# Altium schematic symbol library 78F5R6J-RC.SchLib: 2 symbols
Pins are listed as number, name and electrical type; pins without a type are passive.

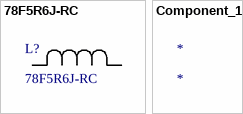
[diagram p0: symbols 78F5R6J-RC to Component_1]

## 78F5R6J-RC
designator L?
No Description Available; Mfr_Name: Bourns Electronics; Type: DEV; Copyright: Copyright (C) 2022 Ultra Librarian. All rights reserved.; Manufacturer_Part_Number: 78F5R6J-RC; Digi-Key_Part_Number_1: 78F5R6J-RC-ND; RefDes: RefDes
footprint IND_BOURNS_78F
pins: 1, 2

## Component_1
designator *